# Altium schematic symbol library Sensor_2SMPP03_1.Schlib: 1 symbol
Pins are listed as number, name and electrical type; pins without a type are passive.

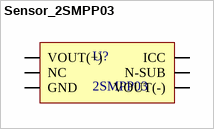
[diagram p0: symbol Sensor_2SMPP03]

## Sensor_2SMPP03
designator U?, comment 2SMPP03
footprint 2SMPP03
pins: 1 VOUT(+), 2 NC, 3 GND, 4 VOUT(-), 5 N-SUB, 6 ICC